# Altium schematic symbol library Sch_Package.SchLib: 31 symbols
Pins are listed as number, name and electrical type; pins without a type are passive.

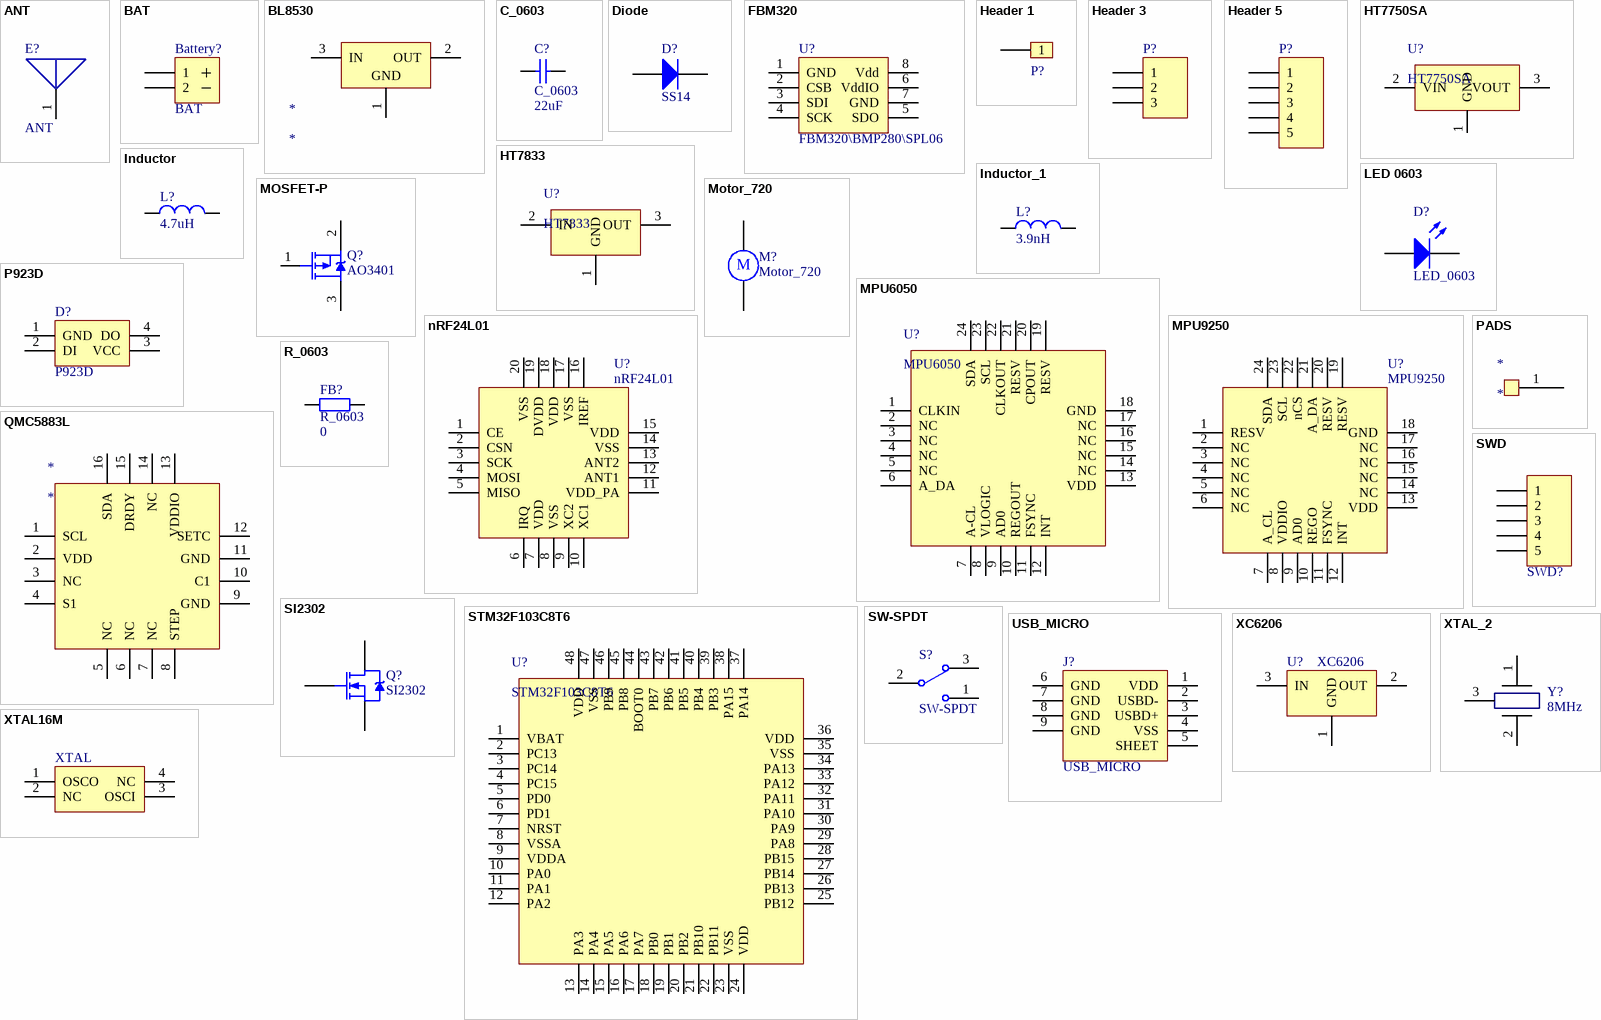
[diagram p0: symbols ANT to XTAL_2]

## ANT
designator E?
Published: 12-August-2017; Publisher: mazhongwei; PackageReference: R_1206
footprint ANT
pins: 1

## BAT
designator Battery?
Header, 2-Pin; Publisher: mazhongwei; Published: 8-August-2017; PackageReference: HDR1X2
footprint BAT
pins: 1, 2

## BL8530
designator *
footprint SOT89
pins: 1 GND (power), 2 OUT (power), 3 IN (power)

## C_0603
designator C?  value 22uF
Published: 8-Jun-2000; LatestRevisionDate: 17-Jul-2002; LatestRevisionNote: Re-released for DXP Platform.; PackageReference: RAD-0.3; Publisher: Altium Limited; PackageDescription: Radial Cap, Thru-Hole; 2 Leads; 0.3 in Pin Spacing
footprint C_0603
pins: 1, 2

## Diode
designator D?, comment SS14
Default Diode; Published: 8-August-2017; PackageReference: DO214AC; Publisher: mazhongwei
footprint DO-214AC
pins: 1 A, 2 K

## FBM320
designator U?, comment FBM320\BMP280\SPL06
气压计; Published: 8-August-2017; Publisher: mazhongwei; PackageReference: LGA-2_5X2MM
footprint LGA-2_5X2MM
pins: 1 GND, 2 CSB, 3 SDI, 4 SCK, 5 SDO, 6 VddIO, 7 GND, 8 Vdd

## Header 1
designator P?  (value not drawn)
LatestRevisionDate: 17-Jul-2002; LatestRevisionNote: Re-released for DXP Platform.; Publisher: Altium Limited
footprint HEADER1
pins: 1

## Header 3
designator P?
Header, 3-Pin; LatestRevisionDate: 17-Jul-2002; LatestRevisionNote: Re-released for DXP Platform.; Publisher: Altium Limited
footprint HDR1X3 (Connector; Header; 3 Position)
signal-integrity model Connector
pins: 1, 2, 3

## Header 5
designator P?
Header, 5-Pin; LatestRevisionDate: 17-Jul-2002; LatestRevisionNote: Re-released for DXP Platform.; Publisher: Altium Limited
footprint HDR1X5 (Connector; Header; 5 Position)
signal-integrity model Connector
pins: 1, 2, 3, 4, 5

## HT7750SA
designator U?
pins: 1 GND, 2 VIN, 3 VOUT

## HT7833
designator U?
pins: 1 GND, 2 IN, 3 OUT

## Inductor
designator L?  value 4.7uH  (hidden comment: Inductor)
电感; Code_IEC: 1005; Published: 8-Jun-2000; LatestRevisionDate: 17-Jul-2002; LatestRevisionNote: Re-released for DXP Platform.; PackageReference: 0402-A; Publisher: Altium Limited; Code_JEITA: 0402
footprint L1812-1
pins: 1, 2

## Inductor_1
designator L?, comment value 3.9nH  (hidden comment: Inductor)
电感; Code_IEC: 1005; Published: 8-Jun-2000; LatestRevisionDate: 17-Jul-2002; LatestRevisionNote: Re-released for DXP Platform.; PackageReference: 0402-A; Publisher: Altium Limited; Code_JEITA: 0402
footprint L0402
pins: 1, 2

## LED 0603
designator D?, comment LED_0603
发光二极管; Published: 8-Jun-2000; LatestRevisionDate: 08-Jul-2005; LatestRevisionNote: Mech Layer 1 removed.; PackageReference: LED-0; Publisher: Altium Limited; PackageDescription: LED; 2 Leads
footprint LED-0603
pins: 1, 2

## MOSFET-P
designator Q?, comment AO3401
MOS管_P沟道; PackageDocument: 1995/1996; Published: 8-Jun-2000; LatestRevisionDate: 17-Jul-2002; LatestRevisionNote: Re-released for DXP Platform.; PackageReference: E3; Publisher: Altium Limited
footprint SOT-23-3
pins: 1 G, 2 S, 3 D

## Motor_720
designator M?
Motor, General Kind; Published: 8-August-2017; PackageReference: RB5-10.5; Publisher: mazhongwei
footprint MOTOR
pins: 1, 2
text: M

## MPU6050
designator U?
pins: 1 CLKIN, 2 NC, 3 NC, 4 NC, 5 NC, 6 A_DA, 7 A-CL, 8 VLOGIC, 9 AD0, 10 REGOUT, 11 FSYNC, 12 INT, 13 VDD, 14 NC, 15 NC, 16 NC, 17 NC, 18 GND, 19 RESV, 20 CPOUT, 21 RESV, 22 CLKOUT, 23 SCL, 24 SDA

## MPU9250
designator U?
footprint QFN24-0.4 (QFN, 24-Leads, Body 3.0x3.0mm (max), Pitch 0.40mm, IPC Medium Density)
pins: 1 RESV, 2 NC, 3 NC, 4 NC, 5 NC, 6 NC, 7 A_CL, 8 VDDIO, 9 AD0, 10 REGO, 11 FSYNC, 12 INT, 13 VDD, 14 NC, 15 NC, 16 NC, 17 NC, 18 GND, 19 RESV, 20 RESV, 21 A_DA, 22 nCS, 23 SCL, 24 SDA

## nRF24L01
designator U?
footprint QFN20
pins: 1 CE, 2 CSN, 3 SCK, 4 MOSI, 5 MISO, 6 IRQ, 7 VDD, 8 VSS, 9 XC2, 10 XC1, 11 VDD_PA, 12 ANT1, 13 ANT2, 14 VSS, 15 VDD, 16 IREF, 17 VSS, 18 VDD, 19 DVDD, 20 VSS

## P923D
designator D?
Publisher: mazhongwei; Published: 8-August-2017; PackageReference: RGB_LED_5050
footprint RGB_LED_5050
pins: 1 GND, 2 DI, 3 VCC, 4 DO

## PADS
designator *
footprint PADS
pins: 1

## QMC5883L
designator *
三轴磁力计
footprint QMC5883L
pins: 1 SCL, 2 VDD, 3 NC, 4 S1, 5 NC, 6 NC, 7 NC, 8 STEP, 9 GND, 10 C1, 11 GND, 12 SETC, 13 VDDIO, 14 NC, 15 DRDY, 16 SDA

## R_0603
designator FB?  value 0
Published: 8-Jun-2000; LatestRevisionDate: 17-Jul-2002; LatestRevisionNote: Re-released for DXP Platform.; PackageReference: AXIAL-0.4; Publisher: Altium Limited; PackageDescription: Axial Device, Thru-Hole; 2 Leads; 0.4 in Pin Spacing
footprint R_0603
pins: 1, 2

## SI2302
designator Q?
N沟道MOSFET; Published: 8-August-2017; PackageReference: SOT23-3; Publisher: mazhongwei
footprint SOT-23-3
pins: 1 G, 2 S, 3 D

## STM32F103C8T6
designator U?
pins: 1 VBAT, 2 PC13, 3 PC14, 4 PC15, 5 PD0, 6 PD1, 7 NRST, 8 VSSA, 9 VDDA, 10 PA0, 11 PA1, 12 PA2, 13 PA3, 14 PA4, 15 PA5, 16 PA6, 17 PA7, 18 PB0, 19 PB1, 20 PB2, 21 PB10, 22 PB11, 23 VSS, 24 VDD, 25 PB12, 26 PB13, 27 PB14, 28 PB15, 29 PA8, 30 PA9, 31 PA10, 32 PA11, 33 PA12, 34 PA13, 35 VSS, 36 VDD, 37 PA14, 38 PA15, 39 PB3, 40 PB4, 41 PB5, 42 PB6, 43 PB7, 44 BOOT0, 45 PB8, 46 PB9, 47 VSS, 48 VDD

## SW-SPDT
designator S?
SPDT Subminiature Toggle Switch, Right Angle Mounting, Vertical Actuation; Published: 10-August-2017; PackageReference: SWITCH_PWR; Publisher: mazhongwei
footprint SWITCH_PWR
pins: 1, 2, 3

## SWD
designator SWD?  (value not drawn)
SWD下载; LatestRevisionDate: 17-Jul-2002; LatestRevisionNote: Re-released for DXP Platform.; Publisher: Altium Limited
footprint SH1_0X5P_WT
pins: 1, 2, 3, 4, 5

## USB_MICRO
designator J?
MicroUSB接口; PackageReference: MINI_USB_FEMALE; Publisher: mazhongwei; Published: 8-August-2017
footprint USB-MICRO
pins: 1 VDD, 2 USBD-, 3 USBD+, 4 VSS, 5 SHEET, 6 GND, 7 GND, 8 GND, 9 GND

## XC6206
designator U?
PackageReference: SOT23-3; Published: 12-August-2017; Publisher: mazhongwei
footprint SOT-23-3
pins: 1 GND, 2 OUT, 3 IN

## XTAL16M
designator XTAL?, comment XTAL
XTAL16M; Value: 16MHz
footprint SMD-3225_4P
pins: 1 OSCO, 2 NC, 3 OSCI, 4 NC

## XTAL_2
designator Y?, comment value 8MHz  (hidden comment: XTAL)
Publisher: mazhongwei; Published: 8-August-2017; PackageReference: SMD-cstse800G52-r0
footprint SMD-cstse800G52-r0
pins: 1, 2, 3